# EAGLE library part LTC6907-*?-S6 (library VCOs)
Operating Temperature Range LTC6907C .......................................... –40°C to 85°C LTC6907I............................................ –40°C to 85°C LTC6907H ........................................ –40°C to 125°C Specified Temperature Range LTC6907C ............................................... 0°C to 70°C LTC6907I............................................ –40°C to 85°C LTC6907H ........................................ –40°C to 125°C Storage Temperature Range ................. –65°C to 150°C Lead Temperature (Soldering, 10 sec).................. 300°C
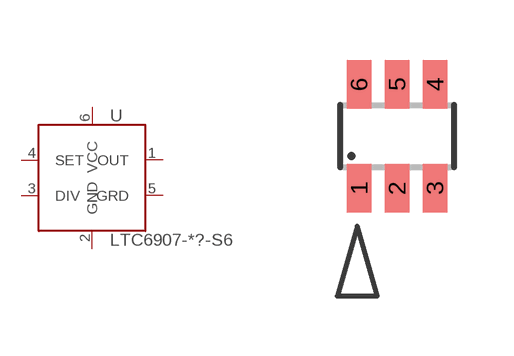
[diagram p0: symbol with the pads of TSOT23-6; footprint TSOT23-6]

Designator prefix U

## LTC6907-C-S6 (MF: Linear Tech; MPN: LTC6907C; _MRK: LTBTX), LTC6907-H-S6 (MF: Linear Tech; MPN: LTC6907H; _MRK: LTBTX), LTC6907-I-S6 (MF: Linear Tech; MPN: LTC6907I; _MRK: LTBTX)  [TSOT23-6]
1  OUT  out
2  GND  pwr
3  DIV
4  SET
5  GRD  out
6  VCC  pwr

## Footprint TSOT23-6 (pad centres in mm)
S6 Package 6-Lead Plastic TSOT-23 Source: http://cds.linear.com/docs/Datasheet/623012fb.pdf
smd 0.62 x 1.22: 1 -0.95,-1.3; 2 0,-1.3; 3 0.95,-1.3; 4 0.95,1.3; 5 0,1.3; 6 -0.95,1.3